# EAGLE library part 8PIN-TERMBLOCK-PUSH (library components)
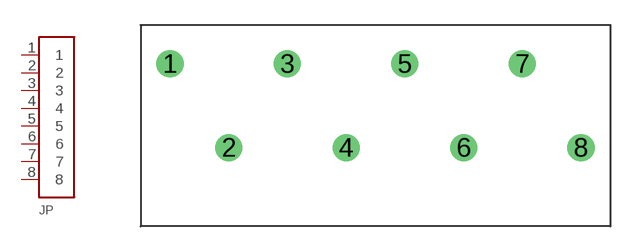
[diagram p38: symbol with the pads of 8-PIN-TERMBLOCK-PUSH; footprint 8-PIN-TERMBLOCK-PUSH]

Designator prefix JP

## 8PIN-TERMBLOCK-PUSH (DESCRIPTION: 8-pin terminal block with push connectors; DIGIKEY-PN: 277-1628-ND; FOOTPRINT: Through Hole)  [8-PIN-TERMBLOCK-PUSH]
1  1  pas
2  2  pas
3  3  pas
4  4  pas
5  5  pas
6  6  pas
7  7  pas
8  8  pas

## Footprint 8-PIN-TERMBLOCK-PUSH (pad centres in mm)
8 pin push-down terminal block 3.5mm spacing, digikey pn 277-1628-ND
drill 1.076: 1 -15.75,5; 2 -12.25,0; 3 -8.75,5; 4 -5.25,0; 5 -1.75,5; 6 1.75,0; 7 5.25,5; 8 8.75,0